# Altium footprint library KEYSTONE_949.PcbLib: 1 footprints
Each footprint in its own frame and in the unit in brackets; x right, y up, seen from the top. Pads: shape width x height; smd on the part's side, far side on the other; paste and mask are expansions set on the pad; w line width, h text height; cw(c..) or ccw(c..) is an arc to the next point about the centre after c.
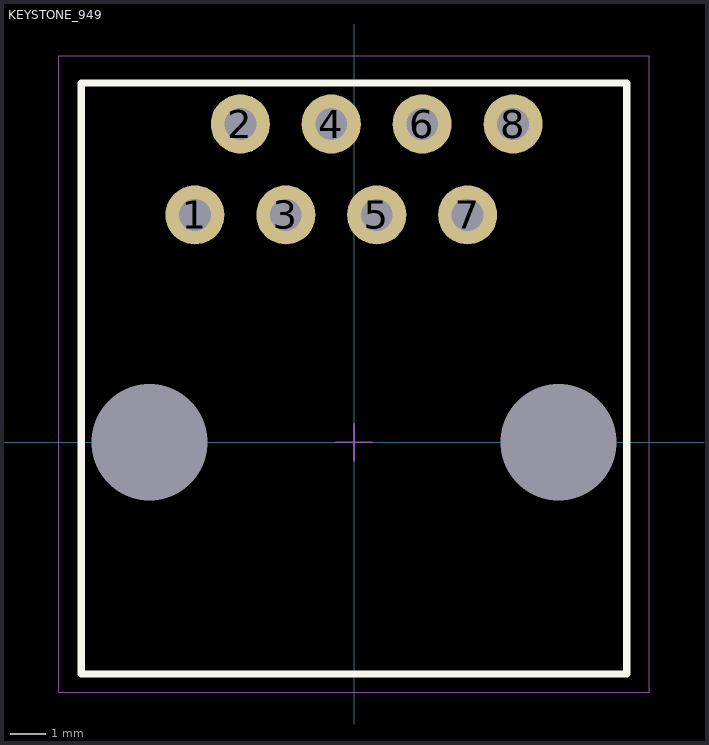
[diagram p0: the footprint, top view; thin cyan lines are the x and y axes]

## KEYSTONE_949 [mil]
pads (10):
  round 0 hole 128: 0(-225,0) 0(225,0)
  round 65 hole 35: 1(-175,250) 2(-125,350) 3(-75,250) 4(-25,350) 5(25,250) 6(75,350) 7(125,250) 8(175,350)
Top Overlay:
  lines w7.87: -300,-255 300,-255 300,395 -300,395 -300,-255
Mechanical 15:
  lines w0.05: -325,-275 325,-275 325,425 -325,425 -325,-275
  lines w1.97: -20,0 20,0 ; 0,-20 0,20
3D body "keystone-PN949.STEP": height 638, standoff -125.78, extent -302.36,-254.8 302.36,394.8